# Altium footprint library SAMTEC_SSM-109-STL-DV.PcbLib: 1 footprints
Each footprint in its own frame and in the unit in brackets; x right, y up, seen from the top. Pads: shape width x height; smd on the part's side, far side on the other; paste and mask are expansions set on the pad; w line width, h text height; cw(c..) or ccw(c..) is an arc to the next point about the centre after c.
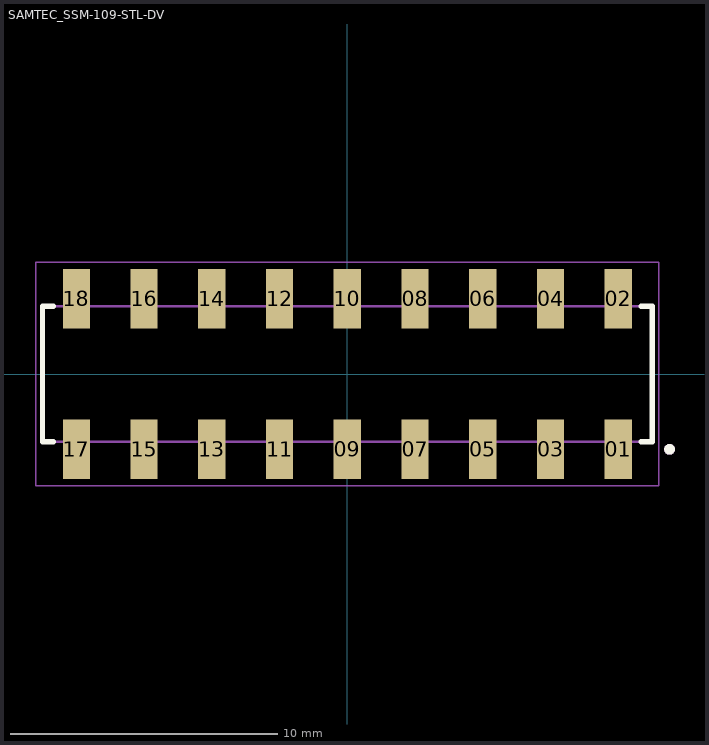
[diagram p0: the footprint, top view; thin cyan lines are the x and y axes]

## SAMTEC_SSM-109-STL-DV [mm]
pads (18):
  rect 1.02x2.22 smd: 01(10.16,-2.825) 02(10.16,2.825) 03(7.62,-2.825) 04(7.62,2.825) 05(5.08,-2.825) 06(5.08,2.825) 07(2.54,-2.825) 08(2.54,2.825) 09(0,-2.825) 10(0,2.825) 11(-2.54,-2.825) 12(-2.54,2.825) 13(-5.08,-2.825) 14(-5.08,2.825) 15(-7.62,-2.825) 16(-7.62,2.825) 17(-10.16,-2.825) 18(-10.16,2.825)
Top Overlay:
  circle w0.2: c12.08,-2.825 r0.1
  lines w0.2: -11.02,-2.54 -11.43,-2.54 -11.43,2.54 -11.02,2.54 ; 11.02,-2.54 11.43,-2.54 11.43,2.54 11.02,2.54
Mechanical 13:
  circle w0.2: c12.08,-2.825 r0.1
  lines w0.1: -11.43,-2.54 -11.43,2.54 ; -11.43,-2.54 11.43,-2.54 ; -11.43,-2.54 -11.43,2.54 ; -11.43,2.54 11.43,2.54 ; -11.43,2.54 11.43,2.54 ; 11.43,-2.54 11.43,2.54 ; 11.43,-2.54 11.43,2.54
Mechanical 15:
  lines w0.05: -11.68,-4.185 -11.68,4.185 11.68,4.185 11.68,-4.185 -11.68,-4.185